# Altium schematic symbol library MCU Sch Library.SchLib: 8 symbols
Pins are listed as number, name and electrical type; pins without a type are passive.

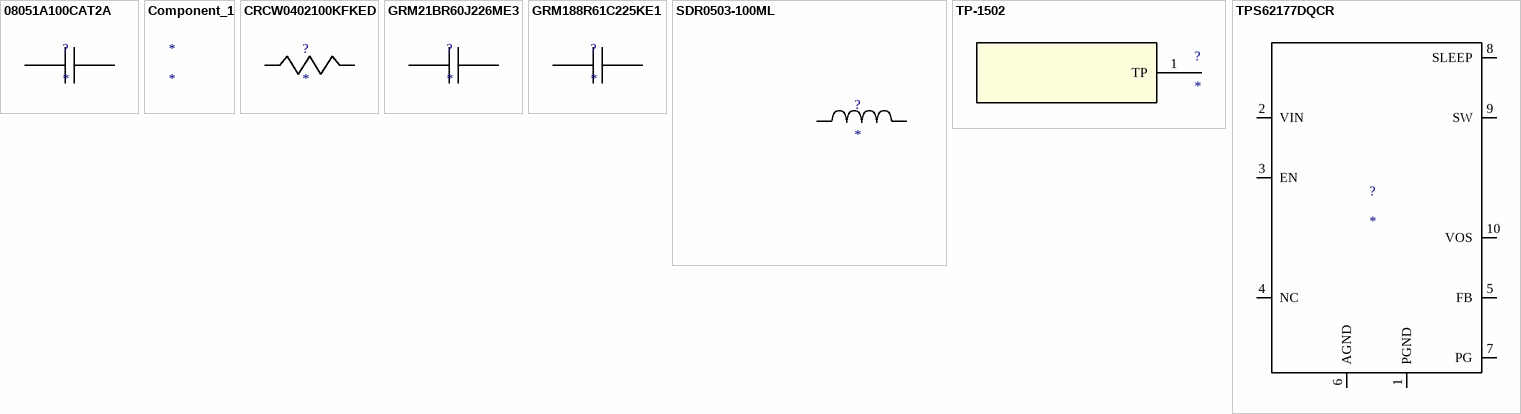
[diagram p0: symbols 08051A100CAT2A to TPS62177DQCR]

## 08051A100CAT2A
designator ?
Imported; Manufacturer_Part_Number: 08051A100CAT2A; Vendor: AVX; RefDes: RefDes; TYPE: TYPE; Value: Value
footprint 0805
pins: 1, 2

## Component_1
designator *

## CRCW0402100KFKED
designator ?
Imported; Manufacturer_Part_Number: CRCW0402100KFKED; Vendor: Vishay-Dale; RefDes: RefDes; TYPE: TYPE; Value: Value
footprint 0402
pins: 1, 2

## GRM21BR60J226ME3
designator ?
Imported; Manufacturer_Part_Number: GRM21BR60J226ME39L; Vendor: MuRata; RefDes: RefDes; TYPE: TYPE; Value: Value
footprint 0805
pins: 1, 2

## GRM188R61C225KE1
designator ?
Imported; Manufacturer_Part_Number: GRM188R61C225KE15D; Vendor: MuRata; RefDes: RefDes; TYPE: TYPE; Value: Value
footprint 0603
pins: 1, 2

## SDR0503-100ML
designator ?
Imported; Manufacturer_Part_Number: SDR0503-100ML; Vendor: Bourns; RefDes: RefDes; TYPE: TYPE; Value: Value
footprint SDR0503
pins: 1, 2

## TP-1502
designator ?
Imported; Value: Value; Type: Type; RefDes: RefDes
footprint TP-1502
pins: 1 TP

## TPS62177DQCR
designator ?
Imported; Manufacturer_Part_Number: TPS62175DQCR; Vendor: Texas Instruments; RefDes: RefDes; TYPE: TYPE; Value: Value
footprint R-PWSON-N10
pins: 1 PGND, 2 VIN, 3 EN, 4 NC, 5 FB, 6 AGND, 7 PG, 8 SLEEP, 9 SW, 10 VOS, 11 PGND